# Altium footprint library DTS63NV.PcbLib: 1 footprints
Each footprint in its own frame and in the unit in brackets; x right, y up, seen from the top. Pads: shape width x height; smd on the part's side, far side on the other; paste and mask are expansions set on the pad; w line width, h text height; cw(c..) or ccw(c..) is an arc to the next point about the centre after c.
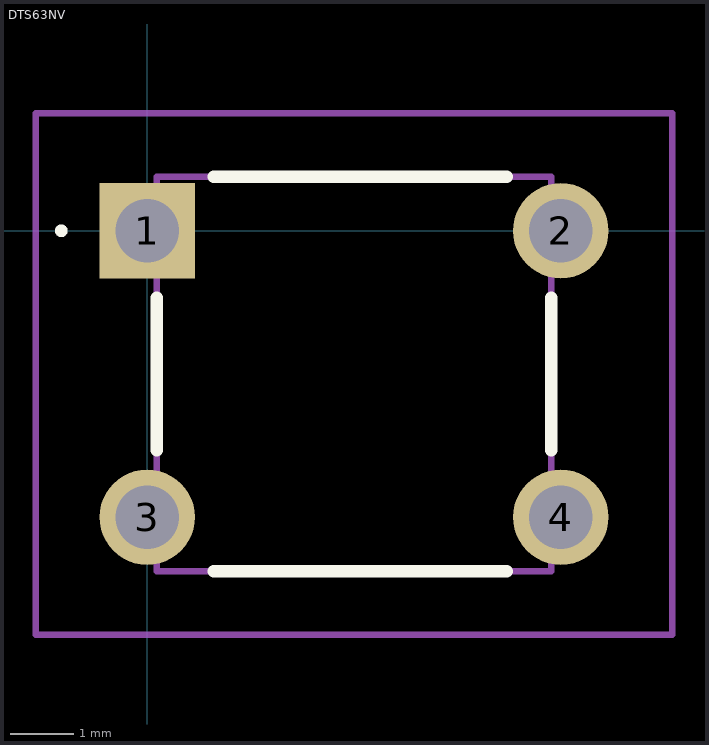
[diagram p0: the footprint, top view; thin cyan lines are the x and y axes]

## DTS63NV [mm]
pads (4):
  rect 1.5x1.5 hole 1: 1(0,0)
  round 1.5 hole 1: 2(6.5,0) 3(0,-4.5) 4(6.5,-4.5)
Top Overlay:
  lines w0.1: -1.4,0 -1.4,0 ; -1.4,0 ccw(c-1.35,0) -1.3,0 ; -1.4,0 cw(c-1.35,0) -1.3,0 ; -1.3,0 -1.3,0
  lines w0.2: 0.15,-3.45 0.15,-1.05 ; 1.05,-5.35 5.65,-5.35 ; 1.05,0.85 5.65,0.85 ; 6.35,-3.45 6.35,-1.05
Mechanical 15:
  lines w0.1: 0.15,-5.35 6.35,-5.35 6.35,0.85 0.15,0.85 0.15,-5.35
Mechanical 20:
  lines w0.1: -1.75,-6.35 8.25,-6.35 8.25,1.85 -1.75,1.85 -1.75,-6.35